# Altium footprint library cProject.PcbLib: 6 footprints
Each footprint in its own frame and in the unit in brackets; x right, y up, seen from the top. Pads: shape width x height; smd on the part's side, far side on the other; paste and mask are expansions set on the pad; w line width, h text height; cw(c..) or ccw(c..) is an arc to the next point about the centre after c.
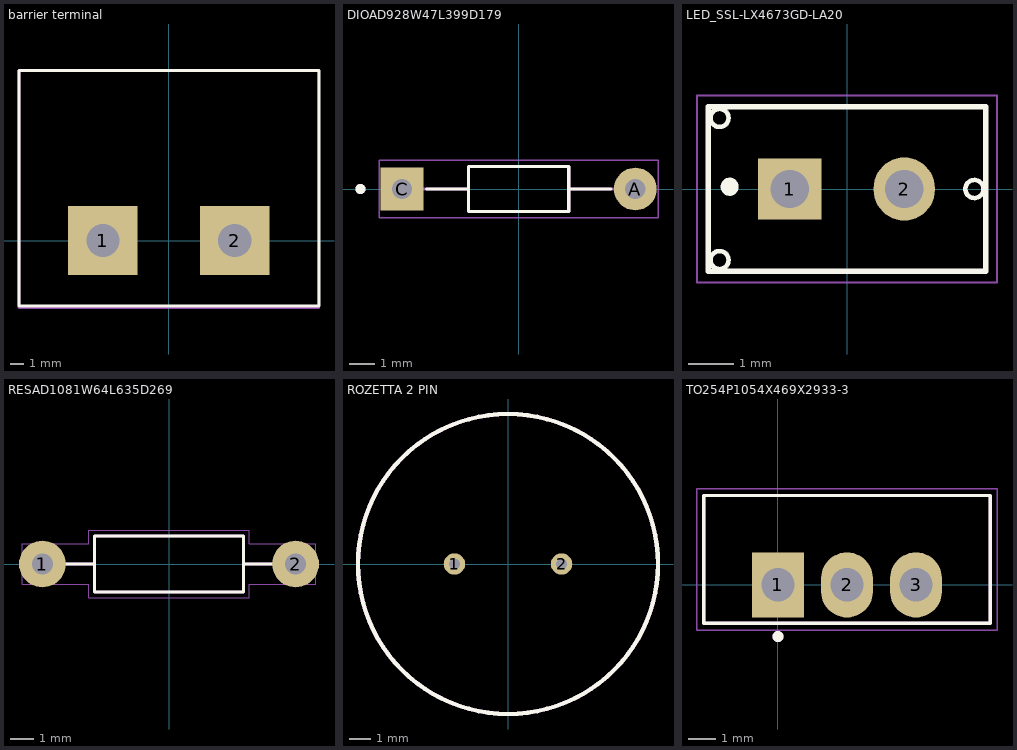
[diagram p0: the footprints below, top view; thin cyan lines are the x and y axes]

## barrier terminal [mm]
pads (2):
  rect 5x5 hole 2.4 square: 1(-4.75,0) 2(4.75,0)
Top Overlay:
  lines w0.2: -10.8,-4.725 -10.8,12.25 10.825,12.25 10.825,-4.725 -10.8,-4.725
Assembly Notes:
  lines w0.2: -10.8,-4.825 -10.8,12.25 10.8,12.25 10.8,-4.825 -10.8,-4.825
  text ".Designator" at -1.66,4.94 h0.3
3D body "Barrier Terminal Block 95mm 2-Pins.STEP": height 18.5, standoff -4.99, extent -10.525,-4.5 10.525,12

## DIOAD928W47L399D179 [mm]
height 2.28
pads (2):
  round 1.7 hole 0.8: A(4.64,0)
  rect 1.7x1.7 hole 0.8: C(-4.64,0)
Top Overlay:
  circle w0.2: c-6.294,0 r0.1
  lines w0.127: -3.666,0 -1.995,0 ; 3.666,0 1.995,0 ; -1.995,0 -1.995,-0.895 1.995,-0.895 1.995,0 ; -1.995,0 -1.995,0.895 1.995,0.895 1.995,0
Mechanical 1:
  lines w0.05: -5.544,-1.145 5.544,-1.145 5.544,1.145 -5.544,1.145 -5.544,-1.145
Mechanical 13:
  circle w0.2: c-6.294,0 r0.1
  lines w0.127: -4.64,0 -1.995,0 ; 4.64,0 1.995,0 ; -1.995,0 -1.995,-0.895 1.995,-0.895 1.995,0 ; -1.995,0 -1.995,0.895 1.995,0.895 1.995,0
3D body "step_temp.STEP": height 2.28, standoff -19.62, extent -4.875,-1.14 4.875,1.14

## LED_SSL-LX4673GD-LA20 [mm]
pads (2):
  rect 1.4x1.358 hole 0.85: 1(-1.27,0)
  oval 1.358x1.4 hole 0.85: 2(1.27,0)
Top Overlay:
  circle w0.1: c2.825,0 r0.2
  circle w0.1: c-2.825,1.575 r0.2
  circle w0.1: c-2.825,-1.575 r0.2
  circle w0.2: c-2.6,0.05 r0.1
  lines w0.127: -3.075,-1.825 3.075,-1.825 3.075,1.825 -3.075,1.825 -3.075,-1.825
Mechanical 1:
  lines w0.05: -3.325,-2.075 3.325,-2.075 3.325,2.075 -3.325,2.075 -3.325,-2.075
3D body "step_temp.STEP": height 8.89, standoff -21.56, extent -1.595,-1.587 1.595,1.587

## RESAD1081W64L635D269 [mm]
height 2.69
pads (2):
  round 2 hole 0.89: 1(-5.405,0) 2(5.405,0)
Top Overlay:
  lines w0.127: -4.465,0 -3.175,0 ; 3.175,0 4.465,0 ; -3.175,-1.195 -3.175,1.195 3.175,1.195 3.175,-1.195 -3.175,-1.195
Mechanical 1:
  lines w0.05: -6.275,-0.87 -3.425,-0.87 -3.425,-1.445 3.425,-1.445 3.425,-0.87 6.275,-0.87 6.275,0.87 3.425,0.87 3.425,1.445 -3.425,1.445 -3.425,0.87 -6.275,0.87 -6.275,-0.87
Mechanical 13:
  lines w0.127: -5.405,0 -3.175,0 ; 3.175,0 5.405,0 ; -3.175,-1.195 3.175,-1.195 3.175,1.195 -3.175,1.195 -3.175,-1.195
3D body "step_temp.STEP": height 2.69, standoff -34.53, extent -5.725,-1.345 5.725,1.345

## ROZETTA 2 PIN [mm]
pads (2):
  round 1 hole 0.5: 1(-2.5,0) 2(2.5,0)
Top Overlay:
  circle w0.2: c0,0 r7
Mechanical 1:
  circle w0.2: c0,0 r7
  text ".Designator" at -1.01,1.09 h0.3

## TO254P1054X469X2933-3 [mm]
pads (3):
  rect 1.9x2.4 hole 1.23: 1(0,0)
  oval 1.9x2.4 hole 1.23: 2(2.54,0) 3(5.08,0)
Top Overlay:
  circle w0.2: c0,-1.9 r0.1
  lines w0.127: -2.73,-1.41 -2.73,3.29 7.81,3.29 7.81,-1.41 -2.73,-1.41
Mechanical 1:
  lines w0.05: -2.98,-1.66 8.06,-1.66 8.06,3.54 -2.98,3.54 -2.98,-1.66
Mechanical 13:
  circle w0.2: c0,-1.9 r0.1
  lines w0.127: -2.73,-1.41 -2.73,3.29 7.81,3.29 7.81,-1.41 -2.73,-1.41